# Altium footprint library PCB - CAPACITOR - ALUMINIUM - CAP ALSMD POLY 6.60MM H5.50MM.pcblib: 1 footprints
Each footprint in its own frame and in the unit in brackets; x right, y up, seen from the top. Pads: shape width x height; smd on the part's side, far side on the other; paste and mask are expansions set on the pad; w line width, h text height; cw(c..) or ccw(c..) is an arc to the next point about the centre after c.
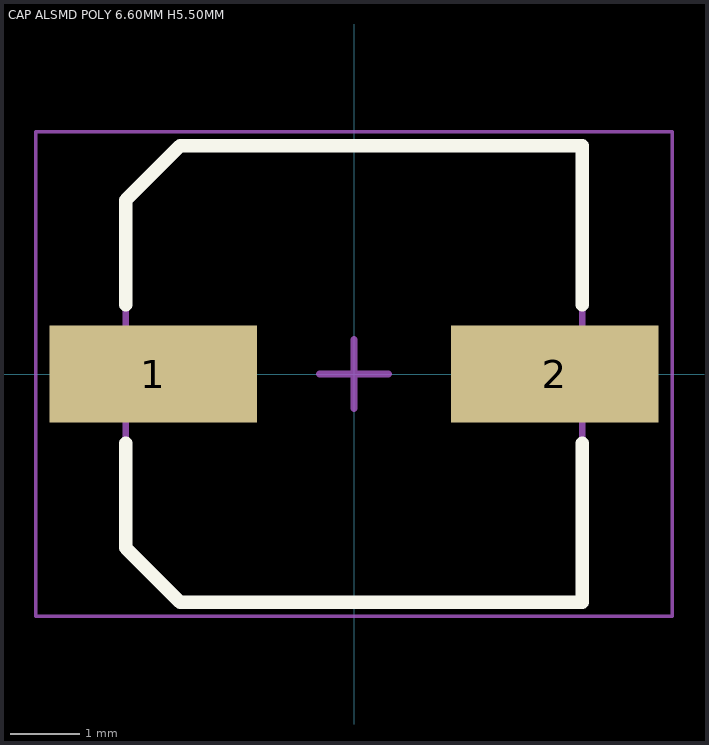
[diagram p0: the footprint, top view; thin cyan lines are the x and y axes]

## CAP ALSMD POLY 6.60MM H5.50MM [mm] "Aluminum SMT Polymer Capacitor, 6.3mm Diameter, 5.50mm Height, 7.20mm Maximum Leads Span"
height 0.7
pads (2):
  rect 3x1.4 smd: 1(-2.9,0) 2(2.9,0)
Top Overlay:
  lines w0.2: -3.3,-1 -3.3,-2.512 -2.512,-3.3 3.3,-3.3 3.3,-1 ; -3.3,1 -3.3,2.512 -2.512,3.3 3.3,3.3 3.3,1
Mechanical 13:
  lines w0.1: -3.3,-2.512 -3.3,2.512 -2.512,3.3 3.3,3.3 3.3,-3.3 -2.512,-3.3 -3.3,-2.512
Mechanical 15:
  lines w0.05: -4.6,-3.5 -4.6,3.5 4.6,3.5 4.6,-3.5 -4.6,-3.5
  lines w0.1: -0.5,0 0.5,0 ; 0,-0.5 0,0.5
3D body: height 5.5, standoff 0, extent -3.6,-3.3 3.6,3.3